# EAGLE library part RPI_HEADER (library HighCurrentTransistorAndDriver)
Raspberry Pi 40-pin hat socket
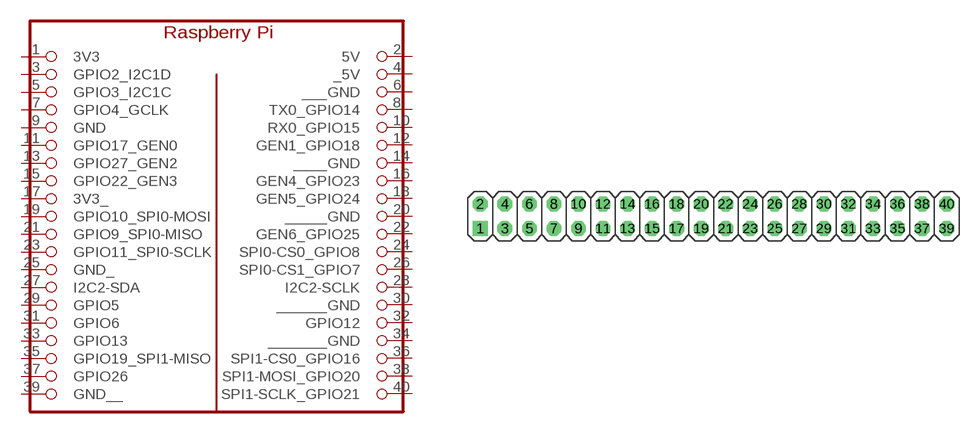
[diagram p0: symbol with the pads of RPI_HEADER; footprint RPI_HEADER]

Designator prefix JP

## RPI_HEADER  [RPI_HEADER]
1  3V3  pwr
2  5V  pwr
3  GPIO2_I2C1D
4  _5V  pwr
5  GPIO3_I2C1C
6  ___GND  pwr
7  GPIO4_GCLK
8  TX0_GPIO14
9  GND  pwr
10  RX0_GPIO15
11  GPIO17_GEN0
12  GEN1_GPIO18
13  GPIO27_GEN2
14  ____GND  pwr
15  GPIO22_GEN3
16  GEN4_GPIO23
17  3V3_  pwr
18  GEN5_GPIO24
19  GPIO10_SPI0-MOSI
20  _____GND  pwr
21  GPIO9_SPI0-MISO
22  GEN6_GPIO25
23  GPIO11_SPI0-SCLK
24  SPI0-CS0_GPIO8
25  GND_  pwr
26  SPI0-CS1_GPIO7
27  I2C2-SDA
28  I2C2-SCLK
29  GPIO5
30  ______GND  pwr
31  GPIO6
32  GPIO12
33  GPIO13
34  _______GND  pwr
35  GPIO19_SPI1-MISO
36  SPI1-CS0_GPIO16
37  GPIO26
38  SPI1-MOSI_GPIO20
39  GND__  pwr
40  SPI1-SCLK_GPIO21

## Footprint RPI_HEADER (pad centres in mm)
PIN HEADER
drill 1.016 square: 1 -24.13,-1.27
drill 1.016 octagon: 2 -24.13,1.27; 3 -21.59,-1.27; 4 -21.59,1.27; 5 -19.05,-1.27; 6 -19.05,1.27; 7 -16.51,-1.27; 8 -16.51,1.27; 9 -13.97,-1.27; 10 -13.97,1.27; 11 -11.43,-1.27; 12 -11.43,1.27; 13 -8.89,-1.27; 14 -8.89,1.27; 15 -6.35,-1.27; 16 -6.35,1.27; 17 -3.81,-1.27; 18 -3.81,1.27; 19 -1.27,-1.27; 20 -1.27,1.27; 21 1.27,-1.27; 22 1.27,1.27; 23 3.81,-1.27; 24 3.81,1.27; 25 6.35,-1.27; 26 6.35,1.27; 27 8.89,-1.27; 28 8.89,1.27; 29 11.43,-1.27; 30 11.43,1.27; 31 13.97,-1.27; 32 13.97,1.27; 33 16.51,-1.27; 34 16.51,1.27; 35 19.05,-1.27; 36 19.05,1.27; 37 21.59,-1.27; 38 21.59,1.27; 39 24.13,-1.27; 40 24.13,1.27